# EAGLE library part WINBOND-W25Q40EW (library EagleLibrary)
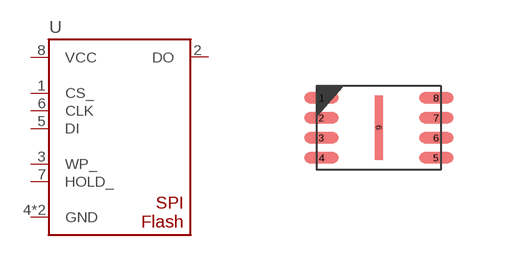
[diagram p47: symbol with the pads of WINBOND-W25Q40EWUXIE; footprint WINBOND-W25Q40EWUXIE]

Designator prefix U

## WINBOND-W25Q40EW (MFG: Winbond)  [WINBOND-W25Q40EWUXIE]
1  CS_
2  DO
3  WP_
4  GND
5  DI
6  CLK
7  HOLD_
8  VCC
9  GND

## Footprint WINBOND-W25Q40EWUXIE (pad centres in mm)
8-SON (DFN), 0.50 mm pitch, 2.00 X 3.00 X 0.80 mm body 8-pin SON (DFN) package with 0.50 mm pitch with body size 2.00 X 3.00 X 0.80 mm
smd 0.86 x 0.27: 1 -1.435,0.75; 2 -1.435,0.25; 3 -1.435,-0.25; 4 -1.435,-0.75; 5 1.435,-0.75; 6 1.435,-0.25; 7 1.435,0.25; 8 1.435,0.75
smd 0.2 x 1.6: 9 0,0